# Altium footprint library Supernova DF13.PcbLib: 47 footprints (part 1 of 3)
Each footprint in its own frame and in the unit in brackets; x right, y up, seen from the top. Pads: shape width x height; smd on the part's side, far side on the other; paste and mask are expansions set on the pad; w line width, h text height; cw(c..) or ccw(c..) is an arc to the next point about the centre after c.
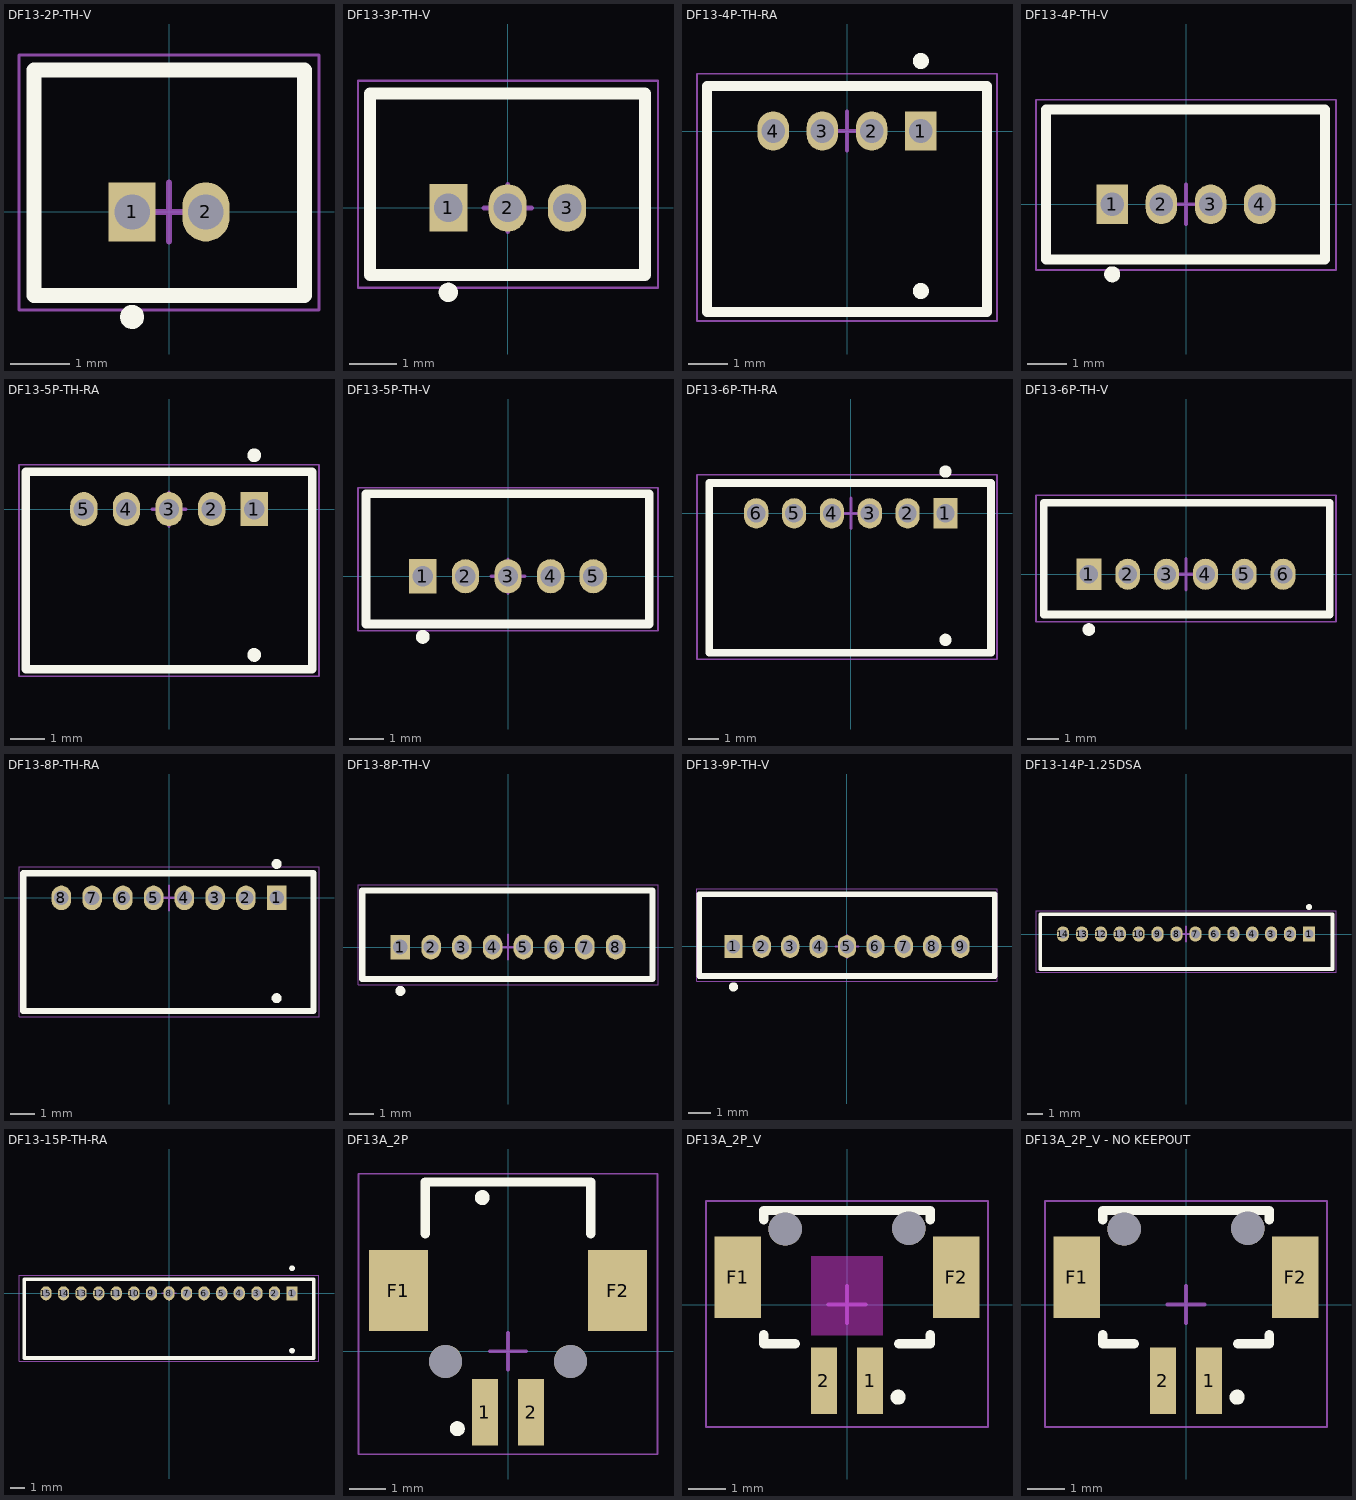
[diagram p0: the footprints below, top view; thin cyan lines are the x and y axes]

## DF13-2P-TH-V [mm]
pads (2):
  rect 0.8x1 hole 0.6: 1(-0.625,0)
  oval 0.8x1 hole 0.6: 2(0.625,0)
Top Overlay:
  circle w0.203: c-0.625,-1.778 r0.102
  lines w0.254: -2.286,-1.414 2.295,-1.414 2.295,2.404 -2.286,2.404 -2.286,-1.414
Top Courtyard:
  lines w0.05: -2.54,-1.658 2.54,-1.658 2.54,2.658 -2.54,2.658 -2.54,-1.658
  lines w0.1: -0.5,0 0.5,0 ; 0,-0.5 0,0.5
3D body "DF13-2.step": height 4.37, standoff -2.23, extent -2.075,-1.2 2.075,2.2

## DF13-3P-TH-V [mm]
pads (3):
  rect 0.8x1 hole 0.6: 1(-1.25,0)
  oval 0.8x1 hole 0.6: 2(0,0) 3(1.25,0)
Top Overlay:
  circle w0.203: c-1.25,-1.778 r0.102
  lines w0.254: -2.903,-1.416 -2.903,2.414 2.895,2.414 2.895,-1.416 -2.903,-1.416
Top Courtyard:
  lines w0.05: -3.152,-1.68 3.164,-1.68 3.164,2.678 -3.152,2.678 -3.152,-1.68
  lines w0.1: -0.5,0 0.5,0 ; 0,-0.5 0,0.5
3D body "Untitled v0.step": height 4.37, standoff -2.23, extent -2.7,-1.2 2.7,2.2

## DF13-4P-TH-RA [mm]
pads (4):
  rect 0.8x1 hole 0.6: 1(1.875,0)
  oval 0.8x1 hole 0.6: 2(0.625,0) 3(-0.625,0) 4(-1.875,0)
Top Overlay:
  circle w0.203: c1.875,1.778 r0.102
  circle w0.203: c1.875,-4.064 r0.102
  lines w0.254: -3.556,-4.6 3.556,-4.6 3.556,1.146 -3.556,1.146 -3.556,-4.6
Top Courtyard:
  lines w0.05: -3.81,-4.826 -3.81,1.454 3.81,1.454 3.81,-4.826 -3.81,-4.826
  lines w0.1: -0.5,0 0.5,0 ; 0,-0.5 0,0.5
3D body "DF13-4P-1.25DS.STEP": height 3.63, standoff -2.27, extent -3.325,-4.494 3.325,0.906

## DF13-4P-TH-V [mm]
pads (4):
  rect 0.8x1 hole 0.6: 1(-1.875,0)
  oval 0.8x1 hole 0.6: 2(-0.625,0) 3(0.625,0) 4(1.875,0)
Top Overlay:
  circle w0.203: c-1.875,-1.778 r0.102
  lines w0.254: -3.55,-1.409 -3.55,2.41 3.527,2.41 3.527,-1.409 -3.55,-1.409
Top Courtyard:
  lines w0.05: -3.81,-1.67 3.81,-1.67 3.81,2.655 -3.81,2.655 -3.81,-1.67
  lines w0.1: -0.5,0 0.5,0 ; 0,-0.5 0,0.5
3D body "DF13-4P-1.step": height 4.34, standoff -2.26, extent -3.35,-1.193 3.3,2.207

## DF13-5P-TH-RA [mm]
pads (5):
  rect 0.8x1 hole 0.6: 1(2.5,0)
  oval 0.8x1 hole 0.6: 2(1.25,0) 3(0,0) 4(-1.25,0) 5(-2.5,0)
Top Overlay:
  circle w0.203: c2.5,-4.278 r0.102
  circle w0.203: c2.5,1.578 r0.102
  lines w0.254: -4.2,-4.7 -4.2,1.1 4.2,1.1 4.2,-4.7 -4.2,-4.7
Top Courtyard:
  lines w0.05: -4.4,-4.9 4.4,-4.9 4.4,1.3 -4.4,1.3 -4.4,-4.9
  lines w0.1: -0.5,0 0.5,0 ; 0,-0.5 0,0.5
3D body "DF13-5P-1.25DS.STEP": height 3.63, standoff -2.27, extent -3.95,-4.5 3.95,0.9

## DF13-5P-TH-V [mm]
pads (5):
  rect 0.8x1 hole 0.6: 1(-2.5,0)
  oval 0.8x1 hole 0.6: 2(-1.25,0) 3(0,0) 4(1.25,0) 5(2.5,0)
Top Overlay:
  circle w0.203: c-2.5,-1.778 r0.102
  lines w0.254: -4.164,-1.399 -4.164,2.416 4.146,2.416 4.146,-1.399 -4.164,-1.399
Top Courtyard:
  lines w0.05: -4.4,-1.594 -4.4,2.6 4.4,2.6 4.4,-1.594 -4.4,-1.594
  lines w0.1: -0.5,0 0.5,0 ; 0,-0.5 0,0.5
3D body "DF13-5P-1.25DSA.stp": height 4.37, standoff -2.23, extent -3.943,-1.216 3.957,2.184

## DF13-6P-TH-RA [mm]
pads (6):
  rect 0.8x1 hole 0.6: 1(3.125,0)
  oval 0.8x1 hole 0.6: 2(1.875,0) 3(0.625,0) 4(-0.625,0) 5(-1.875,0) 6(-3.125,0)
Top Overlay:
  circle w0.203: c3.125,-4.178 r0.102
  circle w0.203: c3.125,1.378 r0.102
  lines w0.254: -4.675,-4.6 4.625,-4.6 4.625,1 -4.675,1 -4.675,-4.6
Top Courtyard:
  lines w0.05: -5.08,-4.826 -5.08,1.27 4.826,1.27 4.826,-4.826 -5.08,-4.826
  lines w0.1: -0.5,0 0.5,0 ; 0,-0.5 0,0.5
3D body "DF13-6P-1.25DS.STEP": height 3.63, standoff -2.27, extent -4.575,-4.5 4.575,0.9

## DF13-6P-TH-V [mm]
pads (6):
  rect 0.8x1 hole 0.6: 1(-3.125,0)
  oval 0.8x1 hole 0.6: 2(-1.875,0) 3(-0.625,0) 4(0.625,0) 5(1.875,0) 6(3.125,0)
Top Overlay:
  circle w0.203: c-3.125,-1.778 r0.102
  lines w0.254: -4.575,-1.3 -4.575,2.3 4.625,2.3 4.625,-1.3 -4.575,-1.3
Top Courtyard:
  lines w0.05: -4.826,-1.524 4.826,-1.524 4.826,2.54 -4.826,2.54 -4.826,-1.524
  lines w0.1: -0.5,0 0.5,0 ; 0,-0.5 0,0.5
3D body "DF13-6P-1.25DSA.stp": height 4.37, standoff -2.23, extent -4.553,-1.19 4.597,2.21

## DF13-8P-TH-RA [mm]
pads (8):
  rect 0.8x1 hole 0.6: 1(4.375,0)
  oval 0.8x1 hole 0.6: 2(3.125,0) 3(1.875,0) 4(0.625,0) 5(-0.625,0) 6(-1.875,0) 7(-3.125,0) 8(-4.375,0)
Top Overlay:
  circle w0.203: c4.375,-4.078 r0.102
  circle w0.203: c4.375,1.378 r0.102
  lines w0.254: -5.925,-4.6 -5.925,1 5.875,1 5.875,-4.6 -5.925,-4.6
Top Courtyard:
  lines w0.05: -6.096,-4.826 -6.096,1.27 6.096,1.27 6.096,-4.826 -6.096,-4.826
  lines w0.1: -0.5,0 0.5,0 ; 0,-0.5 0,0.5
3D body "DF13-8P-1.25DS.stp": height 3.63, standoff -2.27, extent -5.825,-4.5 5.825,0.9

## DF13-8P-TH-V [mm]
pads (8):
  rect 0.8x1 hole 0.6: 1(-4.375,0)
  oval 0.8x1 hole 0.6: 2(-3.125,0) 3(-1.875,0) 4(-0.625,0) 5(0.625,0) 6(1.875,0) 7(3.125,0) 8(4.375,0)
Top Overlay:
  circle w0.203: c-4.375,-1.778 r0.102
  lines w0.254: -5.925,-1.3 -5.925,2.3 5.875,2.3 5.875,-1.3 -5.925,-1.3
Top Courtyard:
  lines w0.05: -6.096,-1.524 6.096,-1.524 6.096,2.54 -6.096,2.54 -6.096,-1.524
  lines w0.1: -0.5,0 0.5,0 ; 0,-0.5 0,0.5
3D body "DF13-8P-1.25DSA.STEP": height 4.32, standoff -2.28, extent -5.825,-1.2 5.825,2.2

## DF13-9P-TH-V [mm]
pads (9):
  rect 0.8x1 hole 0.6: 1(-5,0)
  oval 0.8x1 hole 0.6: 2(-3.75,0) 3(-2.5,0) 4(-1.25,0) 5(0,0) 6(1.25,0) 7(2.5,0) 8(3.75,0) 9(5,0)
Top Overlay:
  circle w0.203: c-5,-1.778 r0.102
  lines w0.254: -6.5,-1.3 6.5,-1.3 6.5,2.3 -6.5,2.3 -6.5,-1.3
Top Courtyard:
  lines w0.05: -6.604,-1.524 6.604,-1.524 6.604,2.54 -6.604,2.54 -6.604,-1.524
  lines w0.1: -0.5,0 0.5,0 ; 0,-0.5 0,0.5
3D body "DF13-9P-1.25DSA.stp": height 4.37, standoff -2.23, extent -6.46,-1.192 6.44,2.208

## DF13-14P-1.25DSA [mm]
pads (14):
  rect 0.8x1 hole 0.6: 1(8.125,0)
  oval 0.8x1 hole 0.6: 2(6.875,0) 3(5.625,0) 4(4.375,0) 5(3.125,0) 6(1.875,0) 7(0.625,0) 8(-0.625,0) 9(-1.875,0) 10(-3.125,0) 11(-4.375,0) 12(-5.625,0) 13(-6.875,0) 14(-8.125,0)
Top Overlay:
  circle w0.203: c8.125,1.778 r0.102
  lines w0.254: -9.625,-2.3 -9.625,1.3 9.675,1.3 9.675,-2.3 -9.625,-2.3
Top Courtyard:
  lines w0.05: -9.906,-2.54 9.906,-2.54 9.906,1.524 -9.906,1.524 -9.906,-2.54
  lines w0.1: -0.5,0 0.5,0 ; 0,-0.5 0,0.5
3D body "DF13-14P-1.25DSA.STEP": height 4.8, standoff -1.8, extent -9.58,-2.181 9.57,1.219

## DF13-15P-TH-RA [mm]
pads (15):
  rect 0.8x1 hole 0.6: 1(8.75,0)
  oval 0.8x1 hole 0.6: 2(7.5,0) 3(6.25,0) 4(5,0) 5(3.75,0) 6(2.5,0) 7(1.25,0) 8(0,0) 9(-1.25,0) 10(-2.5,0) 11(-3.75,0) 12(-5,0) 13(-6.25,0) 14(-7.5,0) 15(-8.75,0)
Top Overlay:
  circle w0.203: c8.75,-4.078 r0.102
  circle w0.203: c8.75,1.778 r0.102
  lines w0.254: -10.3,-4.6 -10.3,1 10.3,1 10.3,-4.6 -10.3,-4.6
Top Courtyard:
  lines w0.05: -10.668,-4.826 10.668,-4.826 10.668,1.27 -10.668,1.27 -10.668,-4.826
  lines w0.1: -0.5,0 0.5,0 ; 0,-0.5 0,0.5
3D body "DF13-15P-1.25DS.STEP": height 3.63, standoff -2.27, extent -10.2,-4.5 10.2,0.9

## DF13A_2P [mm]
height 4
pads (6):
  rect 0.7x1.8 smd: 1(-0.625,-1.65) 2(0.625,-1.65)
  rect 1.6x2.2 smd: F1(-2.975,1.65) F2(2.975,1.65)
  round 0.9 hole 0.9 unplated paste+0 mask+0: ""(-1.695,-0.27) ""(1.695,-0.27)
Top Overlay:
  circle w0.203: c-1.378,-2.1 r0.102
  circle w0.203: c-0.7,4.178 r0.102
  lines w0.254: -2.25,3.2 -2.25,4.6 2.25,4.6 2.25,3.2
Top Courtyard:
  lines w0.05: -4.064,-2.794 4.064,-2.794 4.064,4.826 -4.064,4.826 -4.064,-2.794
  lines w0.1: -0.5,0 0.5,0 ; 0,-0.5 0,0.5
3D body "DF13-2P-1.25H.stp": height 3.63, standoff -0.77, extent -3.575,-2.1 3.575,4.4

## DF13A_2P_V [mm]
height 4
pads (6):
  rect 0.7x1.8 smd: 1(0.625,-2.06) 2(-0.625,-2.06)
  rect 1.245x2.2 smd mask+0: F1(-2.95,0.74) F2(2.95,0.74)
  round 0.9 hole 0.9 unplated paste+0 mask+0: ""(-1.67,2.04) ""(1.67,2.06)
Top Layer keep-out:
  rectangle: -0.975,-0.835 0.975,1.31
Top Overlay:
  circle w0.203: c1.378,-2.5 r0.102
  lines w0.254: -2.25,-0.81 -2.25,-1.06 -1.4,-1.06 ; -2.25,2.29 -2.25,2.54 ; -2.241,2.54 2.25,2.54 2.25,2.29 ; 1.4,-1.06 2.25,-1.06 2.25,-0.81
Top Courtyard:
  lines w0.05: -3.81,-3.302 -3.81,2.794 3.81,2.794 3.81,-3.302 -3.81,-3.302
  lines w0.1: -0.5,0 0.5,0 ; 0,-0.5 0,0.5
3D body "DF13-2P-1.25V.STEP": height 4.77, standoff -0.83, extent -3.58,-2.458 3.57,2.442

## DF13A_2P_V - NO KEEPOUT [mm]
height 4
pads (6):
  rect 0.7x1.8 smd: 1(0.625,-2.06) 2(-0.625,-2.06)
  rect 1.245x2.2 smd mask+0: F1(-2.95,0.74) F2(2.95,0.74)
  round 0.9 hole 0.9 unplated paste+0 mask+0: ""(-1.67,2.04) ""(1.67,2.06)
Top Overlay:
  circle w0.203: c1.378,-2.5 r0.102
  lines w0.254: -2.25,-0.81 -2.25,-1.06 -1.4,-1.06 ; -2.25,2.29 -2.25,2.54 ; -2.241,2.54 2.25,2.54 2.25,2.29 ; 1.4,-1.06 2.25,-1.06 2.25,-0.81
Top Courtyard:
  lines w0.05: -3.81,-3.302 3.81,-3.302 3.81,2.794 -3.81,2.794 -3.81,-3.302
  lines w0.1: -0.5,0 0.5,0 ; 0,-0.5 0,0.5
3D body "DF13-2P-1.25V.STEP": height 4.77, standoff -0.83, extent -3.58,-2.458 3.57,2.442